# Altium schematic symbol library SCH - MCU - SI LABS - SI LABS EFR32ZG23B010F512IM48 48-PIN QFN 6X6.SchLib: 1 symbol
Pins are listed as number, name and electrical type; pins without a type are passive.

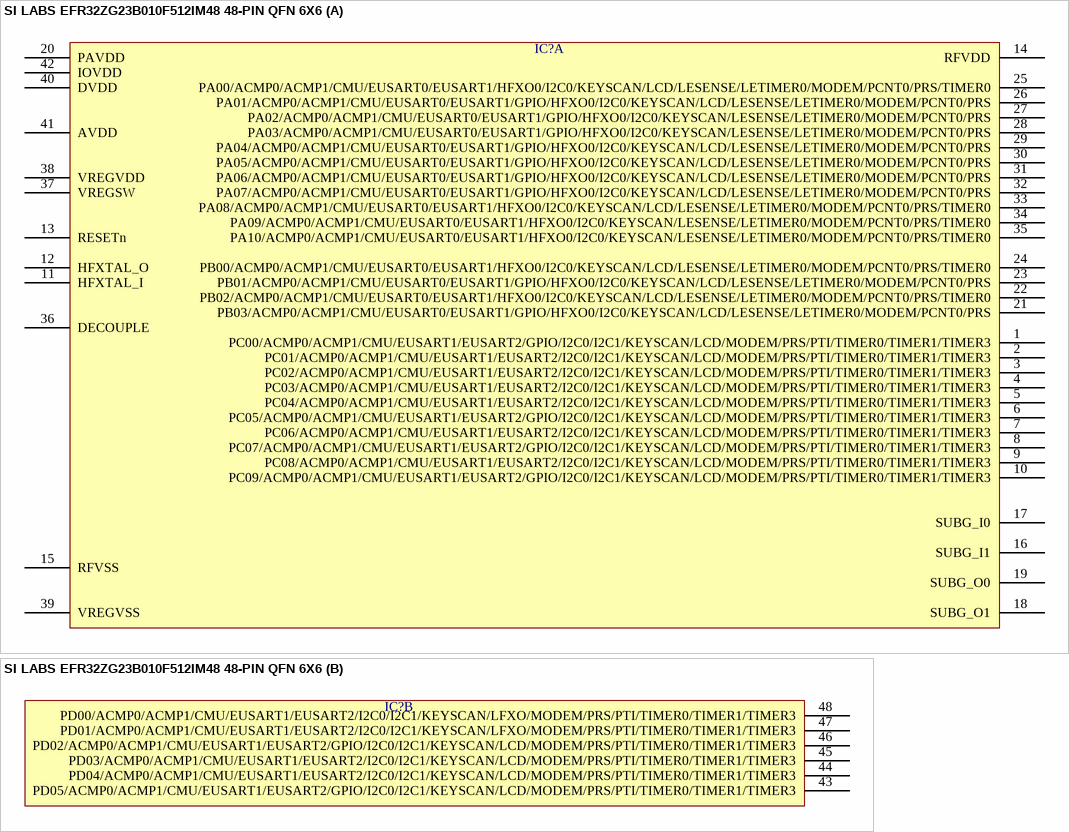
[diagram p0: symbol SI LABS EFR32ZG23B010F512IM48 48-PIN QFN 6X6]

## SI LABS EFR32ZG23B010F512IM48 48-PIN QFN 6X6
designator IC?  (value not drawn)
part A pins: 1 PC00/ACMP0/ACMP1/CMU/EUSART1/EUSART2/GPIO/I2C0/I2C1/KEYSCAN/LCD/MODEM/PRS/PTI/TIMER0/TIMER1/TIMER3, 2 PC01/ACMP0/ACMP1/CMU/EUSART1/EUSART2/I2C0/I2C1/KEYSCAN/LCD/MODEM/PRS/PTI/TIMER0/TIMER1/TIMER3, 3 PC02/ACMP0/ACMP1/CMU/EUSART1/EUSART2/I2C0/I2C1/KEYSCAN/LCD/MODEM/PRS/PTI/TIMER0/TIMER1/TIMER3, 4 PC03/ACMP0/ACMP1/CMU/EUSART1/EUSART2/I2C0/I2C1/KEYSCAN/LCD/MODEM/PRS/PTI/TIMER0/TIMER1/TIMER3, 5 PC04/ACMP0/ACMP1/CMU/EUSART1/EUSART2/I2C0/I2C1/KEYSCAN/LCD/MODEM/PRS/PTI/TIMER0/TIMER1/TIMER3, 6 PC05/ACMP0/ACMP1/CMU/EUSART1/EUSART2/GPIO/I2C0/I2C1/KEYSCAN/LCD/MODEM/PRS/PTI/TIMER0/TIMER1/TIMER3, 7 PC06/ACMP0/ACMP1/CMU/EUSART1/EUSART2/I2C0/I2C1/KEYSCAN/LCD/MODEM/PRS/PTI/TIMER0/TIMER1/TIMER3, 8 PC07/ACMP0/ACMP1/CMU/EUSART1/EUSART2/GPIO/I2C0/I2C1/KEYSCAN/LCD/MODEM/PRS/PTI/TIMER0/TIMER1/TIMER3, 9 PC08/ACMP0/ACMP1/CMU/EUSART1/EUSART2/I2C0/I2C1/KEYSCAN/LCD/MODEM/PRS/PTI/TIMER0/TIMER1/TIMER3, 10 PC09/ACMP0/ACMP1/CMU/EUSART1/EUSART2/GPIO/I2C0/I2C1/KEYSCAN/LCD/MODEM/PRS/PTI/TIMER0/TIMER1/TIMER3, 11 HFXTAL_I, 12 HFXTAL_O, 13 RESETn, 14 RFVDD, 15 RFVSS, 16 SUBG_I1, 17 SUBG_I0, 18 SUBG_O1, 19 SUBG_O0, 20 PAVDD, 21 PB03/ACMP0/ACMP1/CMU/EUSART0/EUSART1/GPIO/HFXO0/I2C0/KEYSCAN/LCD/LESENSE/LETIMER0/MODEM/PCNT0/PRS, 22 PB02/ACMP0/ACMP1/CMU/EUSART0/EUSART1/HFXO0/I2C0/KEYSCAN/LCD/LESENSE/LETIMER0/MODEM/PCNT0/PRS/TIMER0, 23 PB01/ACMP0/ACMP1/CMU/EUSART0/EUSART1/GPIO/HFXO0/I2C0/KEYSCAN/LCD/LESENSE/LETIMER0/MODEM/PCNT0/PRS, 24 PB00/ACMP0/ACMP1/CMU/EUSART0/EUSART1/HFXO0/I2C0/KEYSCAN/LCD/LESENSE/LETIMER0/MODEM/PCNT0/PRS/TIMER0, 25 PA00/ACMP0/ACMP1/CMU/EUSART0/EUSART1/HFXO0/I2C0/KEYSCAN/LCD/LESENSE/LETIMER0/MODEM/PCNT0/PRS/TIMER0, 26 PA01/ACMP0/ACMP1/CMU/EUSART0/EUSART1/GPIO/HFXO0/I2C0/KEYSCAN/LCD/LESENSE/LETIMER0/MODEM/PCNT0/PRS, 27 PA02/ACMP0/ACMP1/CMU/EUSART0/EUSART1/GPIO/HFXO0/I2C0/KEYSCAN/LESENSE/LETIMER0/MODEM/PCNT0/PRS, 28 PA03/ACMP0/ACMP1/CMU/EUSART0/EUSART1/GPIO/HFXO0/I2C0/KEYSCAN/LESENSE/LETIMER0/MODEM/PCNT0/PRS, 29 PA04/ACMP0/ACMP1/CMU/EUSART0/EUSART1/GPIO/HFXO0/I2C0/KEYSCAN/LCD/LESENSE/LETIMER0/MODEM/PCNT0/PRS, 30 PA05/ACMP0/ACMP1/CMU/EUSART0/EUSART1/GPIO/HFXO0/I2C0/KEYSCAN/LCD/LESENSE/LETIMER0/MODEM/PCNT0/PRS, 31 PA06/ACMP0/ACMP1/CMU/EUSART0/EUSART1/GPIO/HFXO0/I2C0/KEYSCAN/LCD/LESENSE/LETIMER0/MODEM/PCNT0/PRS, 32 PA07/ACMP0/ACMP1/CMU/EUSART0/EUSART1/GPIO/HFXO0/I2C0/KEYSCAN/LCD/LESENSE/LETIMER0/MODEM/PCNT0/PRS, 33 PA08/ACMP0/ACMP1/CMU/EUSART0/EUSART1/HFXO0/I2C0/KEYSCAN/LCD/LESENSE/LETIMER0/MODEM/PCNT0/PRS/TIMER0, 34 PA09/ACMP0/ACMP1/CMU/EUSART0/EUSART1/HFXO0/I2C0/KEYSCAN/LESENSE/LETIMER0/MODEM/PCNT0/PRS/TIMER0, 35 PA10/ACMP0/ACMP1/CMU/EUSART0/EUSART1/HFXO0/I2C0/KEYSCAN/LESENSE/LETIMER0/MODEM/PCNT0/PRS/TIMER0, 36 DECOUPLE, 37 VREGSW, 38 VREGVDD, 39 VREGVSS, 40 DVDD, 41 AVDD, 42 IOVDD
part B pins: 43 PD05/ACMP0/ACMP1/CMU/EUSART1/EUSART2/GPIO/I2C0/I2C1/KEYSCAN/LCD/MODEM/PRS/PTI/TIMER0/TIMER1/TIMER3, 44 PD04/ACMP0/ACMP1/CMU/EUSART1/EUSART2/I2C0/I2C1/KEYSCAN/LCD/MODEM/PRS/PTI/TIMER0/TIMER1/TIMER3, 45 PD03/ACMP0/ACMP1/CMU/EUSART1/EUSART2/I2C0/I2C1/KEYSCAN/LCD/MODEM/PRS/PTI/TIMER0/TIMER1/TIMER3, 46 PD02/ACMP0/ACMP1/CMU/EUSART1/EUSART2/GPIO/I2C0/I2C1/KEYSCAN/LCD/MODEM/PRS/PTI/TIMER0/TIMER1/TIMER3, 47 PD01/ACMP0/ACMP1/CMU/EUSART1/EUSART2/I2C0/I2C1/KEYSCAN/LFXO/MODEM/PRS/PTI/TIMER0/TIMER1/TIMER3, 48 PD00/ACMP0/ACMP1/CMU/EUSART1/EUSART2/I2C0/I2C1/KEYSCAN/LFXO/MODEM/PRS/PTI/TIMER0/TIMER1/TIMER3